# EAGLE library part MAX300* (library robotter)
max3000 to max3003 bidirectionnal level shifter
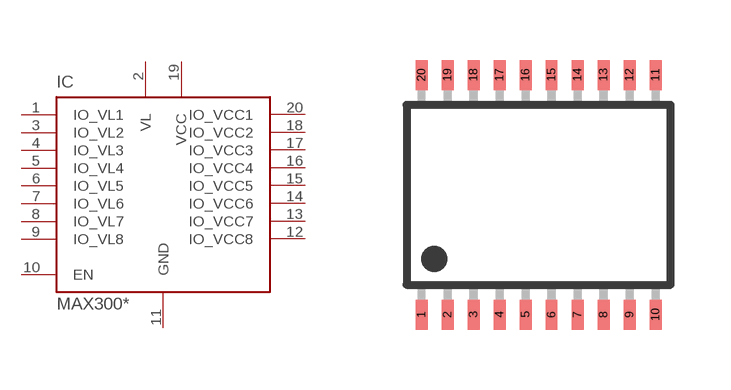
[diagram p0: symbol with the pads of TSSOP20; footprint TSSOP20]

Designator prefix IC

## MAX300EUP  [TSSOP20]
1  IO_VL1
2  VL  pwr
3  IO_VL2
4  IO_VL3
5  IO_VL4
6  IO_VL5
7  IO_VL6
8  IO_VL7
9  IO_VL8
10  EN
11  GND  pwr
12  IO_VCC8
13  IO_VCC7
14  IO_VCC6
15  IO_VCC5
16  IO_VCC4
17  IO_VCC3
18  IO_VCC2
19  VCC  pwr
20  IO_VCC1

## Footprint TSSOP20 (pad centres in mm)
Plastic Small-Outline Package
smd 0.3 x 0.75: 1 -2.925,-3; 2 -2.275,-3; 3 -1.625,-3; 4 -0.975,-3; 5 -0.325,-3; 6 0.325,-3; 7 0.975,-3; 8 1.625,-3; 9 2.275,-3; 10 2.925,-3; 11 2.925,3; 12 2.275,3; 13 1.625,3; 14 0.975,3; 15 0.325,3; 16 -0.325,3; 17 -0.975,3; 18 -1.625,3; 19 -2.275,3; 20 -2.925,3